# Altium footprint library L-KLS7-SS03-12D02-EG05.PcbLib: 1 footprints
Each footprint in its own frame and in the unit in brackets; x right, y up, seen from the top. Pads: shape width x height; smd on the part's side, far side on the other; paste and mask are expansions set on the pad; w line width, h text height; cw(c..) or ccw(c..) is an arc to the next point about the centre after c.
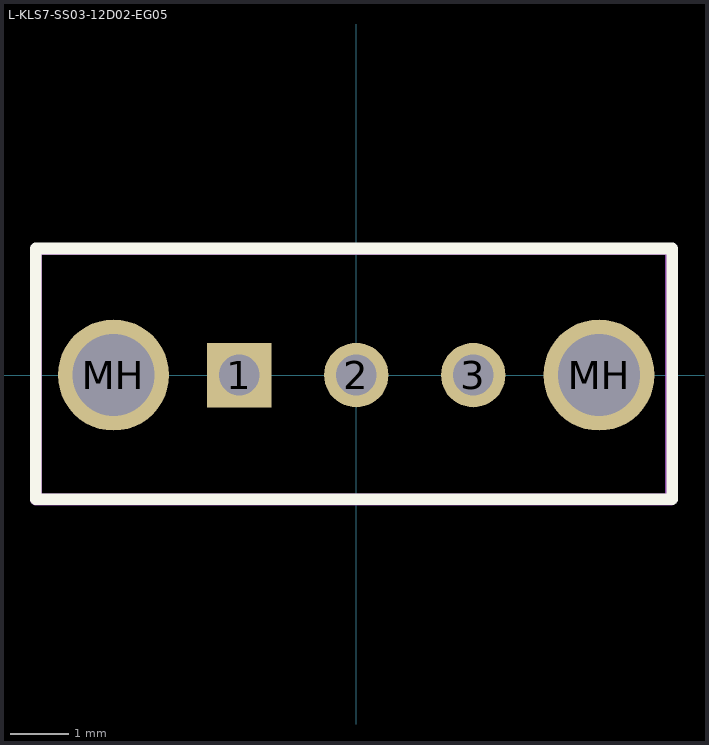
[diagram p0: the footprint, top view; thin cyan lines are the x and y axes]

## L-KLS7-SS03-12D02-EG05 [mm]
height 9.7
pads (5):
  rect 1.1x1.1 hole 0.7: 1(-2,0)
  round 1.1 hole 0.7: 2(0,0) 3(2,0)
  round 1.9 hole 1.4: MH(-4.15,0) MH(4.15,0)
Top Overlay:
  lines w0.2: -5.477,-2.122 5.4,-2.122 5.4,2.163 -5.477,2.163 -5.477,-2.122
  text "." at -6.125,-0.175 h3
Top Assembly:
  lines w0.2: -5.475,-2.125 -5.475,2.15 5.375,2.15 5.375,-2.125 -5.475,-2.125
Top Courtyard:
  lines w0.2: -5.475,-2.125 -5.475,2.15 5.375,2.15 5.375,-2.125 -5.475,-2.125
3D body "User Library-KLS7-SS03-12D02-EG-3.step": height 7.33, standoff -2.8, extent -4.35,-2.25 4.35,2.25